# EAGLE library part 1705647 (library con-phoenix-3.81)
MKDSD 1,5/12-3,81 Printklemme Nennstrom: 8 A Bemessungsspannung: 200 V Raster: 3,81 mm Polzahl: 12 Montageart: Löten Anschlussart: Schraubanschluss Anschlussrichtung vom Leiter zur Platine: 0° Source: http://eshop.phoenixcontact.com .. 1705647.pdf
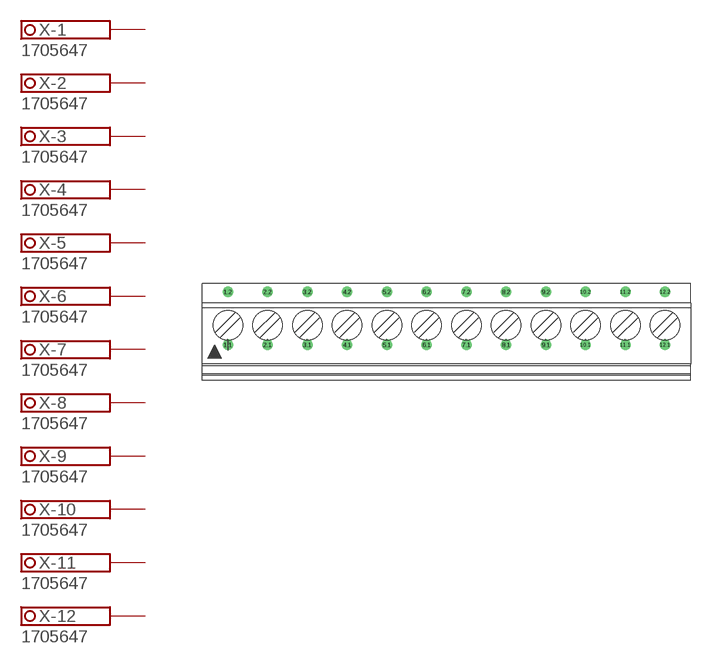
[diagram p0: symbol with the pads of 1705647; footprint 1705647]

Designator prefix X; gates -1=SCHRAUBKLEMME_2 -2=SCHRAUBKLEMME_2 -3=SCHRAUBKLEMME_2 -4=SCHRAUBKLEMME_2 -5=SCHRAUBKLEMME_2 -6=SCHRAUBKLEMME_2 -7=SCHRAUBKLEMME_2 -8=SCHRAUBKLEMME_2 -9=SCHRAUBKLEMME_2 -10=SCHRAUBKLEMME_2 -11=SCHRAUBKLEMME_2 -12=SCHRAUBKLEMME_2

## 1705647 (OC_FARNELL: unknown; OC_NEWARK: unknown)  [1705647]
1.1  -1:1A  pas
1.2  -1:1B  pas
2.1  -2:1A  pas
2.2  -2:1B  pas
3.1  -3:1A  pas
3.2  -3:1B  pas
4.1  -4:1A  pas
4.2  -4:1B  pas
5.1  -5:1A  pas
5.2  -5:1B  pas
6.1  -6:1A  pas
6.2  -6:1B  pas
7.1  -7:1A  pas
7.2  -7:1B  pas
8.1  -8:1A  pas
8.2  -8:1B  pas
9.1  -9:1A  pas
9.2  -9:1B  pas
10.1  -10:1A  pas
10.2  -10:1B  pas
11.1  -11:1A  pas
11.2  -11:1B  pas
12.1  -12:1A  pas
12.2  -12:1B  pas

## Footprint 1705647 (pad centres in mm)
MKDSD 1,5/12-3,81 Printklemme Nennstrom: 8 A Bemessungsspannung: 200 V Raster: 3,81 mm Polzahl: 12 Montageart: Löten Anschlussart: Schraubanschluss Anschlussrichtung vom Leiter zur Platine: 0° Source: http://eshop.phoenixcontact.com .. 1705647.pdf
drill 0.5 pad 0.9 round: 1.1 -20.955,-1.25; 1.2 -20.955,3.83; 2.1 -17.145,-1.25; 2.2 -17.145,3.83; 3.1 -13.335,-1.25; 3.2 -13.335,3.83; 4.1 -9.525,-1.25; 4.2 -9.525,3.83; 5.1 -5.715,-1.25; 5.2 -5.715,3.83; 6.1 -1.905,-1.25; 6.2 -1.905,3.83; 7.1 1.905,-1.25; 7.2 1.905,3.83; 8.1 5.715,-1.25; 8.2 5.715,3.83; 9.1 9.525,-1.25; 9.2 9.525,3.83; 10.1 13.335,-1.25; 10.2 13.335,3.83; 11.1 17.145,-1.25; 11.2 17.145,3.83; 12.1 20.955,-1.25; 12.2 20.955,3.83